# EAGLE library part A8513KLYTR-T (library A8513KLYTR-T)
Backlight Driver For Small/Medium Size LCDs Source: Datasheet <http://www.allegromicro.com/~/media/files/datasheets/a8513-datasheet.pdf>
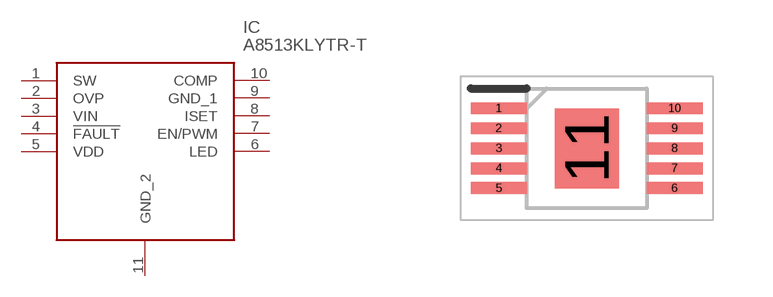
[diagram p0: symbol with the pads of SOP50P488X106-11N; footprint SOP50P488X106-11N]

Designator prefix IC

## A8513KLYTR-T (Arrow_Part_Number: A8513KLYTR-T; Description: Backlight Driver For Small/Medium Size LCDs; Height: 1.06mm; Manufacturer_Name: Allegro Microsystems; Manufacturer_Part_Number: A8513KLYTR-T)  [SOP50P488X106-11N]
1  SW
2  OVP
3  VIN
4  !FAULT
5  VDD
6  LED
7  EN/PWM
8  ISET
9  GND_1
10  COMP
11  GND_2

## Footprint SOP50P488X106-11N (pad centres in mm)
LY, 10-Pin MSOP with Exposed Thermal Pad
smd 1.4 x 0.3: 1 -2.2,1; 2 -2.2,0.5; 3 -2.2,0; 4 -2.2,-0.5; 5 -2.2,-1; 6 2.2,-1; 7 2.2,-0.5; 8 2.2,0; 9 2.2,0.5; 10 2.2,1
smd 1.6 x 2: 11 0,0